# Altium integrated library example-7.IntLib: 1 symbol
Pins are listed as number, name and electrical type; pins without a type are passive.

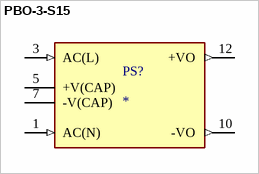
[diagram p0: symbol PBO-3-S15]

## PBO-3-S15
designator PS?
3 W, 85 ~ 305 Vac Input, Single Output, Open Frame, Board Mount, Ac-Dc Power Supply; MP: PBO-3-S15; MF: CUI Inc.; CUI_purchase_URL: https://www.cui.com/product/internal-ac-dc-power-supplies/board-mount/pbo-3-series?utm_source=snapeda.com&utm_medium=referral&utm_campaign=snapedaBOM; SnapEDA_Link: https://www.snapeda.com/parts/PBO-3-S15/CUI/view-part/?ref=snap; Availability: In Stock; Price: None; Package: None; Purchase-URL: https://pricing.snapeda.com/search/part/PBO-3-S15/?ref=eda; Value: *; Check_prices: https://www.snapeda.com/parts/PBO-3-S15/CUI/view-part/?ref=eda
footprint CONV_PBO-3-S15
pins: 1 AC(N) (in), 3 AC(L) (in), 5 +V(CAP), 7 -V(CAP), 10 -VO (out), 12 +VO (out)